# Altium footprint library Inductor.PcbLib: 1 footprints
Each footprint in its own frame and in the unit in brackets; x right, y up, seen from the top. Pads: shape width x height; smd on the part's side, far side on the other; paste and mask are expansions set on the pad; w line width, h text height; cw(c..) or ccw(c..) is an arc to the next point about the centre after c.
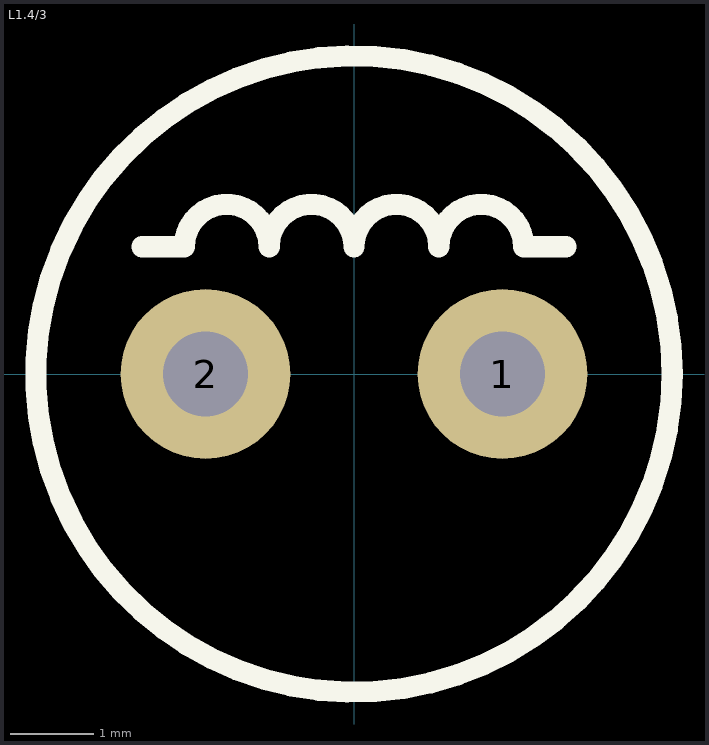
[diagram p0: the footprint, top view; thin cyan lines are the x and y axes]

## L1.4/3 [mil] "L1.4/3"
pads (2):
  round 80 hole 40: 1(70,0) 2(-70,0)
Top Overlay:
  circle w10: c0,0 r150
  lines w10: -100,60 -80,60 cw(c-60,60) -40,60 cw(c-20,60) 0,60 cw(c20,60) 40,60 cw(c60,60) 80,60 100,60